# Altium footprint library Pcblibv2.PcbLib: 94 footprints (part 5 of 6)
Each footprint in its own frame and in the unit in brackets; x right, y up, seen from the top. Pads: shape width x height; smd on the part's side, far side on the other; paste and mask are expansions set on the pad; w line width, h text height; cw(c..) or ccw(c..) is an arc to the next point about the centre after c.
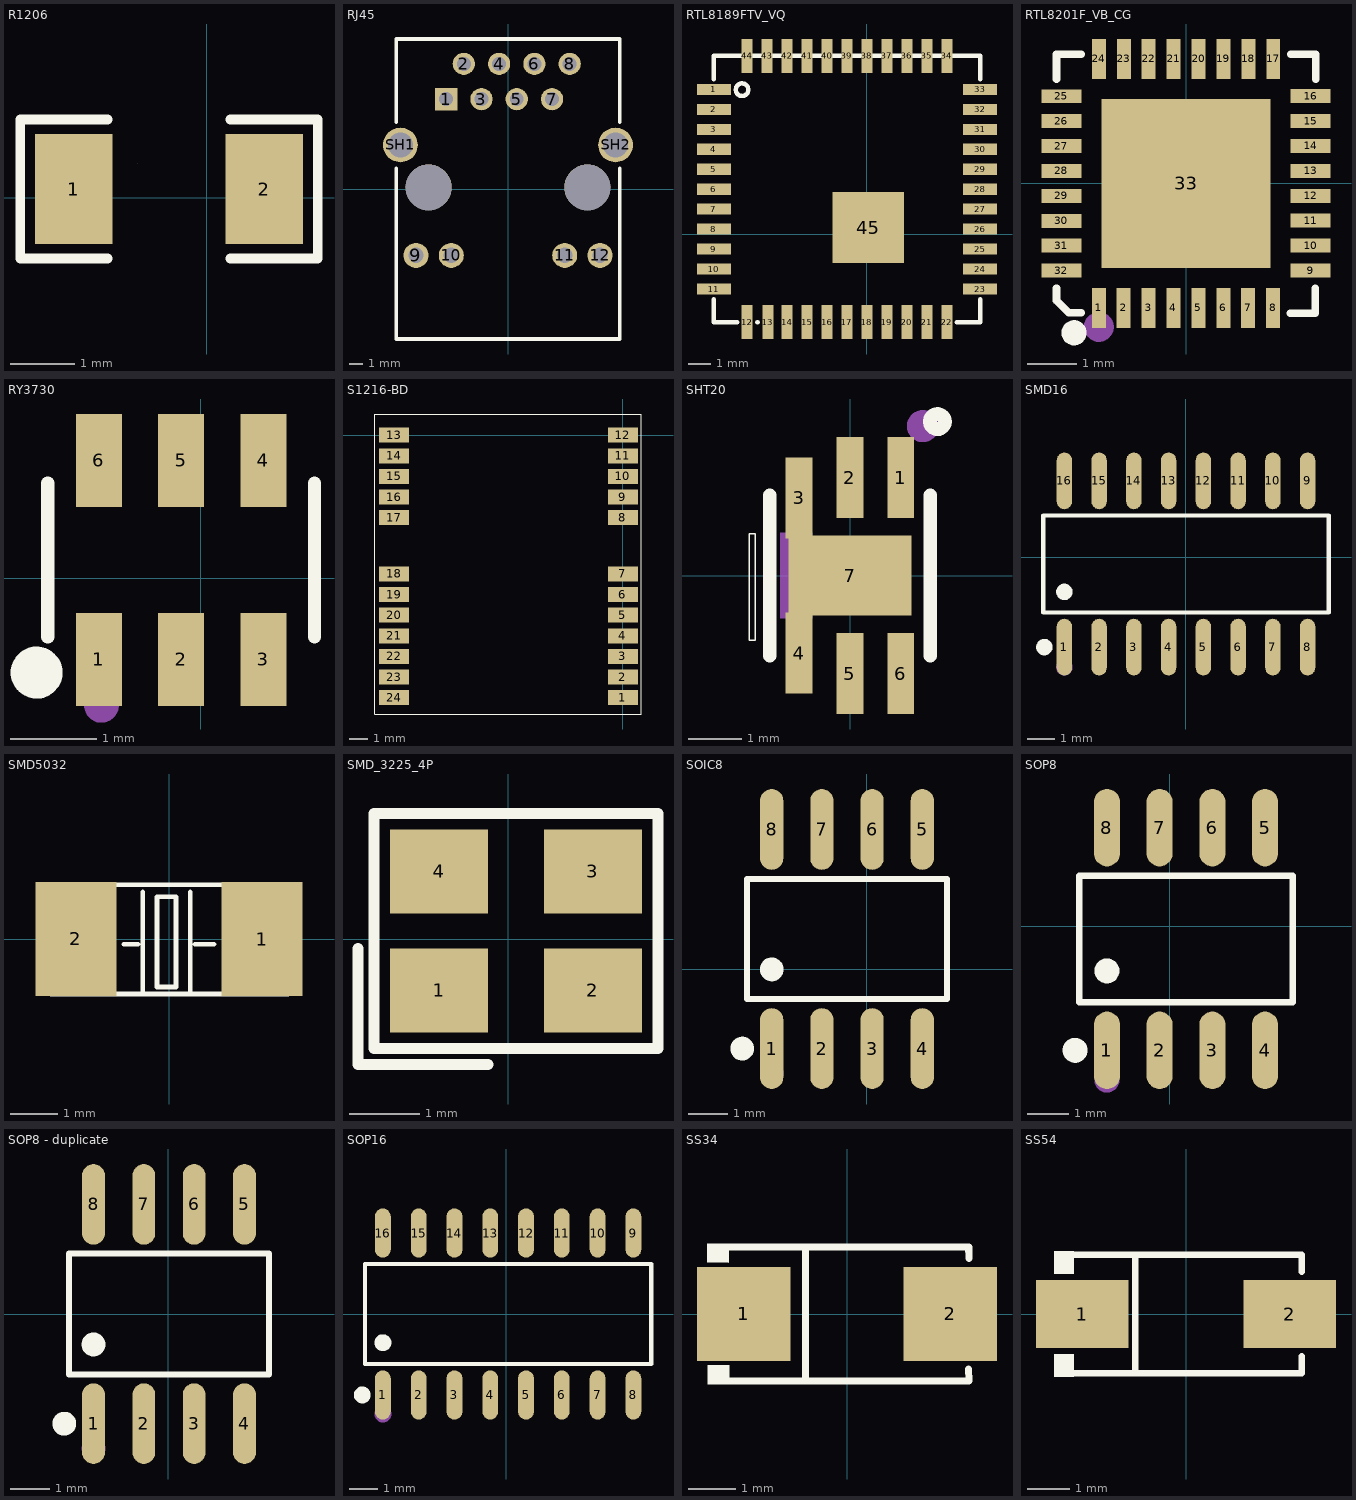
[diagram p4: the footprints below, top view; thin cyan lines are the x and y axes]

## R1206 [mm]
pads (2):
  rect 1.208x1.701 smd: 1(-2.063,0.139) 2(0.895,0.139)
Top Overlay:
  lines w0.152: -1.535,-0.94 -2.895,-0.94 -2.895,1.218 -1.535,1.218 ; 0.367,-0.94 1.727,-0.94 1.727,1.218 0.367,1.218
Top Paste:
  region: -1.459,-0.611 -1.459,-0.25 -1.559,-0.15 -1.77,-0.15 -1.87,-0.05 -1.87,0.328 -1.77,0.428 -1.559,0.428 -1.459,0.528 -1.459,0.89 -1.559,0.99 -2.567,0.99 -2.667,0.89 -2.667,-0.611 -2.567,-0.711 -1.559,-0.711
  region: 0.291,-0.611 0.291,-0.25 0.391,-0.15 0.601,-0.15 0.701,-0.05 0.701,0.328 0.601,0.428 0.391,0.428 0.291,0.528 0.291,0.89 0.391,0.99 1.398,0.99 1.498,0.89 1.498,-0.611 1.398,-0.711 0.391,-0.711
Mechanical 15:
  lines w0.003: -1.067,0.533 -1.067,0.533

## RJ45 [mm]
pads (16):
  rect 1.6x1.6 hole 1: 1(-4.45,6.484)
  round 1.6 hole 1: 2(-3.18,9.024) 3(-1.91,6.484) 4(-0.64,9.024) 5(0.63,6.484) 6(1.9,9.024) 7(3.17,6.484) 8(4.44,9.024)
  round 1.8 hole 1.1: 9(-6.625,-4.766) 10(-4.085,-4.766) 11(4.085,-4.766) 12(6.625,-4.766)
  round 2.5 hole 1.8: SH1(-7.745,3.184) SH2(7.745,3.184)
  round 3.3 hole 3.3 unplated: ""(-5.715,0.134) ""(5.715,0.134)
Top Overlay:
  lines w0.254: -8.05,1.514 -8.05,-10.786 8.05,-10.786 8.05,1.514 ; -8.05,4.814 -8.05,10.814 8.05,10.814 8.05,4.814
Mechanical 15:
  circle w0.2: c-5.03,7.089 r0.1

## RTL8189FTV_VQ [mm]
pads (45):
  rect 1.524x0.5 smd: 1(-6.889,6.522) 2(-6.889,5.622) 3(-6.889,4.722) 4(-6.889,3.822) 5(-6.889,2.922) 6(-6.889,2.022) 7(-6.889,1.122) 8(-6.889,0.222) 9(-6.889,-0.678) 10(-6.889,-1.578) 11(-6.889,-2.478) 23(5.111,-2.478) 24(5.111,-1.578) 25(5.111,-0.678) 26(5.111,0.222) 27(5.111,1.122) 28(5.111,2.022) 29(5.111,2.922) 30(5.111,3.822) 31(5.111,4.722) 32(5.111,5.622) 33(5.111,6.522)
  rect 0.5x1.524 smd: 12(-5.389,-3.968) 13(-4.459,-3.968) 14(-3.589,-3.968) 15(-2.689,-3.968) 16(-1.789,-3.968) 17(-0.889,-3.968) 18(0.011,-3.968) 19(0.911,-3.968) 20(1.811,-3.968) 21(2.711,-3.968) 22(3.611,-3.968) 34(3.611,8.032) 35(2.711,8.032) 36(1.811,8.032) 37(0.911,8.032) 38(0.011,8.032) 39(-0.889,8.032) 40(-1.789,8.032) 41(-2.689,8.032) 42(-3.589,8.032) 43(-4.489,8.032) 44(-5.389,8.032)
  rect 3.21x3.2 smd: 45(0.066,0.292)
Top Overlay:
  circle w0.2: c-5.619,6.508 r0.284
  lines w0.2: -6.889,-2.932 -6.889,-3.968 -5.843,-3.968 ; -6.889,6.976 -6.889,8.032 5.111,8.032 5.111,6.976 ; -4.935,-3.968 -4.913,-3.968 ; 4.065,-3.968 5.111,-3.968 5.111,-2.932

## RTL8201F_VB_CG [mm]
pads (33):
  rect 0.28x0.8 smd: 1(-1.75,-2.5) 2(-1.251,-2.5) 3(-0.751,-2.5) 4(-0.251,-2.5) 5(0.249,-2.5) 6(0.749,-2.5) 7(1.249,-2.5) 8(1.749,-2.5) 17(1.752,2.5) 18(1.251,2.5) 19(0.752,2.5) 20(0.251,2.5) 21(-0.248,2.5) 22(-0.749,2.5) 23(-1.248,2.5) 24(-1.749,2.5)
  rect 0.8x0.28 smd: 9(2.5,-1.748) 10(2.5,-1.248) 11(2.5,-0.748) 12(2.5,-0.248) 13(2.5,0.252) 14(2.5,0.752) 15(2.5,1.252) 16(2.5,1.752) 25(-2.5,1.75) 26(-2.5,1.25) 27(-2.5,0.75) 28(-2.5,0.25) 29(-2.5,-0.25) 30(-2.5,-0.75) 31(-2.5,-1.25) 32(-2.5,-1.75)
  rect 3.4x3.4 smd: 33(0,0)
Top Overlay:
  circle w0.254: c-2.248,-2.998 r0.125
  lines w0.152: -2.6,-2.1 -2.6,-2.35 -2.35,-2.6 -2.1,-2.6 ; -2.599,2.097 -2.599,2.597 -2.099,2.597 ; 2.098,-2.602 2.598,-2.602 2.598,-2.103 ; 2.103,2.597 2.602,2.597 2.602,2.097
Mechanical 15:
  circle w0.3: c-1.75,-2.88 r0.15

## RY3730 [mm]
pads (6):
  rect 0.532x1.072 smd: 1(-1.18,-0.936) 2(-0.23,-0.936) 3(0.72,-0.936) 4(0.72,1.362) 5(-0.23,1.362) 6(-1.18,1.362)
Top Overlay:
  circle w0.3: c-1.898,-1.088 r0.15
  lines w0.152: -1.769,-0.676 -1.769,1.102 ; 1.309,-0.676 1.309,1.102
Mechanical 15:
  circle w0.2: c-1.15,-1.467 r0.1

## S1216-BD [mm]
pads (24):
  rect 1.6x0.8 smd: 1(0,-14) 2(0,-12.9) 3(0,-11.8) 4(0,-10.7) 5(0,-9.6) 6(0,-8.5) 7(0,-7.4) 8(0,-4.4) 9(0,-3.3) 10(0,-2.2) 11(0,-1.1) 12(0,0) 13(-12.2,0) 14(-12.2,-1.1) 15(-12.2,-2.2) 16(-12.2,-3.3) 17(-12.2,-4.4) 18(-12.2,-7.4) 19(-12.2,-8.5) 20(-12.2,-9.6) 21(-12.2,-10.7) 22(-12.2,-11.8) 23(-12.2,-12.9) 24(-12.2,-14)
Top Overlay:
  lines w0.025: -13.226,-14.87 -13.226,1.13 0.97,1.13 0.97,-14.87 -13.226,-14.87

## SHT20 [mm]
pads (7):
  rect 0.5x1.512 smd: 1(0.946,1.831) 2(-0.004,1.831) 3(-0.954,1.45) 4(-0.954,-1.451) 5(-0.004,-1.832) 6(0.946,-1.832)
  rect 2.3x1.5 smd: 7(0,0)
Top Overlay:
  circle w0.254: c1.631,2.878 r0.141
  lines w0.025: -1.89,-1.209 -1.778,-1.209 -1.778,0.782 -1.852,0.782 -1.89,0.782 -1.89,-1.209
  lines w0.254: -1.504,-1.499 -1.504,1.501 ; 1.496,-1.499 1.496,1.501
Mechanical 15:
  circle w0.3: c1.361,2.791 r0.15
  region: -1.304,0.801 -0.704,0.801 -0.704,-0.799 -1.304,-0.799

## SMD16 [mm]
pads (16):
  oval 0.56x2.075 smd: 1(-4.427,-3.283) 2(-3.157,-3.283) 3(-1.887,-3.283) 4(-0.617,-3.283) 5(0.653,-3.283) 6(1.923,-3.283) 7(3.193,-3.283) 8(4.463,-3.283) 9(4.463,2.792) 10(3.193,2.792) 11(1.923,2.792) 12(0.653,2.792) 13(-0.617,2.792) 14(-1.887,2.792) 15(-3.157,2.792) 16(-4.427,2.792)
Top Overlay:
  circle w0.3: c-5.16,-3.283 r0.15
  circle w0.3: c-4.427,-1.265 r0.15
  lines w0.152: -5.199,-2.017 5.234,-2.017 5.234,1.526 -5.199,1.526 -5.199,-2.017
Mechanical 15:
  circle w0.3: c-4.427,-4.02 r0.15

## SMD5032 [mm]
pads (2):
  rect 1.7x2.4 smd: 1(1.96,0.005) 2(-1.96,0.006)
Top Overlay:
  lines w0.1: -0.954,-0.104 -0.654,-0.104 ; -0.554,-1.104 -0.554,0.996 ; 0.446,-1.104 0.446,0.996 ; 0.546,-0.104 0.946,-0.104 ; -0.254,-1.004 -0.254,0.896 0.146,0.896 0.146,-1.004 -0.254,-1.004
  lines w0.102: -2.487,-1.155 2.514,-1.155 ; -2.486,-1.152 -2.486,1.147 2.513,1.147 2.513,-1.152

## SMD_3225_4P [mm]
pads (4):
  rect 1.4x1.2 smd: 1(-0.986,-0.736) 2(1.214,-0.736) 3(1.214,0.964) 4(-0.986,0.964)
Top Overlay:
  lines w0.152: -2.143,-0.136 -2.143,-1.793 -0.286,-1.793 ; -1.914,-1.564 -1.914,1.793 2.143,1.793 2.143,-1.564 -1.914,-1.564
Mechanical 15:
  circle w0.36: c-1.029,-0.775 r0.18

## SOIC8 [mm]
pads (8):
  oval 0.588x2.045 smd: 1(-2.408,-2.002) 2(-1.138,-2.002) 3(0.132,-2.002) 4(1.402,-2.002) 5(1.402,3.543) 6(0.132,3.543) 7(-1.138,3.543) 8(-2.408,3.543)
Top Overlay:
  circle w0.3: c-2.408,0.002 r0.15
  circle w0.3: c-3.154,-2.002 r0.15
  lines w0.152: -3.029,-0.751 -3.029,2.292 2.024,2.292 2.024,-0.751 -3.029,-0.751
Mechanical 15:
  circle w0.3: c-2.408,-2.629 r0.15

## SOP8 [mm]
pads (8):
  oval 0.63x1.865 smd: 1(-1.518,-2.985) 2(-0.248,-2.985) 3(1.022,-2.985) 4(2.292,-2.985) 5(2.292,2.38) 6(1.022,2.38) 7(-0.248,2.38) 8(-1.518,2.38)
Top Overlay:
  circle w0.3: c-1.518,-1.071 r0.15
  circle w0.3: c-2.286,-2.985 r0.15
  lines w0.152: -2.189,-1.824 -2.189,1.219 2.963,1.219 2.963,-1.824 -2.189,-1.824
Mechanical 15:
  circle w0.3: c-1.518,-3.702 r0.15

## SOP8 - duplicate [mm]
pads (8):
  oval 0.574x2.036 smd: 1(-1.885,-2.768) 2(-0.615,-2.768) 3(0.655,-2.768) 4(1.925,-2.768) 5(1.925,2.768) 6(0.655,2.768) 7(-0.615,2.768) 8(-1.885,2.768)
Top Overlay:
  circle w0.3: c-2.624,-2.768 r0.15
  circle w0.3: c-1.885,-0.769 r0.15
  lines w0.152: -2.506,-1.521 2.546,-1.521 2.546,1.521 -2.506,1.521 -2.506,-1.521
Mechanical 15:
  circle w0.3: c-1.885,-3.398 r0.15

## SOP16 [mm]
pads (16):
  oval 0.56x1.745 smd: 1(-4.382,-2.873) 2(-3.112,-2.873) 3(-1.842,-2.873) 4(-0.572,-2.873) 5(0.698,-2.873) 6(1.968,-2.873) 7(3.238,-2.873) 8(4.508,-2.873) 9(4.508,2.873) 10(3.238,2.873) 11(1.968,2.873) 12(0.698,2.873) 13(-0.572,2.873) 14(-1.842,2.873) 15(-3.112,2.873) 16(-4.382,2.873)
Top Overlay:
  circle w0.3: c-5.115,-2.872 r0.15
  circle w0.3: c-4.382,-1.019 r0.15
  lines w0.152: -5.013,-1.771 5.139,-1.771 5.139,1.771 -5.013,1.771 -5.013,-1.771
Mechanical 15:
  circle w0.3: c-4.382,-3.55 r0.15

## SS34 [mm]
pads (2):
  rect 2x2 smd: 1(-2.2,0) 2(2.2,0)
Top Overlay:
  region: -2.52,1.502 -2.521,1.096 -2.981,1.1 -2.977,1.502
  region: -2.512,-1.096 -2.513,-1.502 -2.973,-1.498 -2.969,-1.096
  lines w0.152: -2.596,-1.426 2.596,-1.426 ; -2.596,1.426 2.596,1.426 2.603,1.187 ; -0.884,-1.426 -0.884,1.426 ; 2.593,-1.176 2.6,-1.415
Mechanical 15:
  region: -2.317,-0.101 -2.317,0.101 -1.507,0.101 -1.507,-0.101
  region: 2.29,-0.09 2.29,0.113 1.48,0.113 1.48,-0.09
  region: 2.014,-0.675 2.014,0.675 1.811,0.675 1.811,-0.675

## SS54 [mm]
pads (2):
  rect 2.185x1.593 smd: 1(-2.442,0) 2(2.442,0)
Top Overlay:
  region: -2.65,-1.477 -2.65,-0.949 -3.107,-0.949 -3.107,-1.477
  region: -2.65,1.477 -2.65,0.949 -3.107,0.949 -3.107,1.477
  lines w0.152: -2.726,-1.401 2.726,-1.401 2.726,-1 ; -2.726,1.401 2.726,1.401 2.726,1 ; -1.197,-1.401 -1.197,1.401
Mechanical 15:
  region: 2.153,-0.663 2.153,0.663 1.954,0.663 1.954,-0.663
  region: 2.451,-0.099 2.451,0.099 1.656,0.099 1.656,-0.099
  region: -2.451,-0.099 -2.451,0.099 -1.656,0.099 -1.656,-0.099